# Altium schematic symbol library SchlibEspprog.SchLib: 7 symbols
Pins are listed as number, name and electrical type; pins without a type are passive.

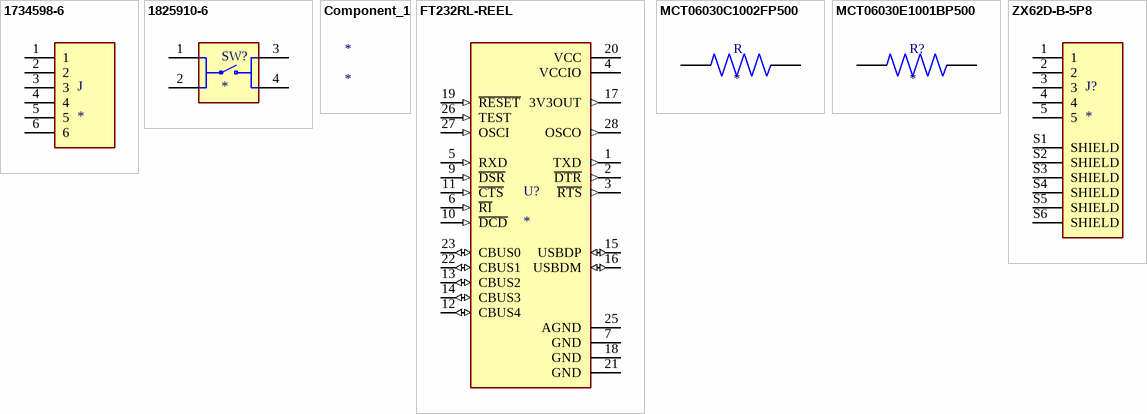
[diagram p0: symbols 1734598-6 to ZX62D-B-5P8]

## 1734598-6
designator J
1.25 WTB HDR DIP, 6 POS; Number_of_Positions: 6; MF: TE Connectivity; Product_Type: Connector; Centerline_Pitch: 1.25 mm[.049 in]; MP: 1734598-6; Value: *; Price: None; Package: None; TE_purchase_URL: https://www.te.com/usa-en/product-1734598-6.html?te_bu=Cor&te_type=disp&te_campaign=seda_glo_cor-seda-global-disp-prtnr-fy19-seda-model-bom-cta_sma-317_1&elqCampaignId=32493; Availability: Unavailable; SnapEDA_Link: https://www.snapeda.com/parts/1734598-6/TE%20Connectivity%20AMP%20Connectors/view-part/502603/?ref=snap; EU_RoHS_Compliance: Compliant
footprint TE_1734598-6
pins: 1, 2, 3, 4, 5, 6

## 1825910-6
designator SW?
Switch Tactile OFF (ON) SPST Round Button PC Pins 0.05A 24VDC 100000Cycles 1.57N Thru-Hole Loose; MP: 1825910-6; Price: None; Availability: Unavailable; Value: *; Package: None
footprint SW_1825910-6-4
pins: 1, 2, 3, 4

## Component_1
designator *

## FT232RL-REEL
designator U?
USB Full Speed to Serial UART IC, Includes Oscillator and EEPROM - SSOP-28; MP: FT232RL-REEL; Package: None; Value: *; Price: None; Availability: Unavailable
footprint SOP65P780X200-28N
pins: 1 TXD (out), 2 ~{DTR} (out), 3 ~{RTS} (out), 4 VCCIO (power), 5 RXD (in), 6 ~{RI} (in), 7 GND (power), 9 ~{DSR} (in), 10 ~{DCD} (in), 11 ~{CTS} (in), 12 CBUS4 (io), 13 CBUS2 (io), 14 CBUS3 (io), 15 USBDP (io), 16 USBDM (io), 17 3V3OUT (out), 18 GND (power), 19 ~{RESET} (in), 20 VCC (power), 21 GND (power), 22 CBUS1 (io), 23 CBUS0 (io), 25 AGND (power), 26 TEST (in), 27 OSCI (in), 28 OSCO (out)

## MCT06030C1002FP500
designator R
10 kOhms Â±1% 0.125W, 1/8W Chip Resistor 0603 _1608 Metric_ Anti-Sulfur Thin Film; MP: MCT06030C1002FP500; MF: Vishay Beyschlag; Value: *; SnapEDA_Link: https://www.snapeda.com/parts/MCT06030C1002FP500/Vishay%20Beyschlag/view-part/52290/?ref=snap; Availability: Unavailable; Package: 1508 Vishay; Price: None
footprint RESC1508X55N
pins: 1, 2

## MCT06030E1001BP500
designator R?
MCT 0603-15 0.1% P5 1K0; MP: MCT06030E1001BP500; Package: None; Price: None; Value: *; Availability: Unavailable
footprint RESC1508X55N
pins: 1, 2

## ZX62D-B-5P8
designator J?
USB - micro B USB 2.0 Receptacle Connector 5 Position Surface Mount, Right Angle; Through Hole; MF: Hirose Connector; MP: ZX62D-B-5P8; Package: None; Check_prices: https://www.snapeda.com/parts/ZX62D-B-5P8/Hirose/view-part/?ref=eda; Price: None; Purchase-URL: https://pricing.snapeda.com/search/part/ZX62D-B-5P8/?ref=eda; Value: *; SnapEDA_Link: https://www.snapeda.com/parts/ZX62D-B-5P8/Hirose/view-part/?ref=snap; Availability: In Stock
footprint HRS_ZX62D-B-5P8
pins: 1, 2, 3, 4, 5, S1 SHIELD, S2 SHIELD, S3 SHIELD, S4 SHIELD, S5 SHIELD, S6 SHIELD